# Altium footprint library FPC connectors.PcbLib: 3 footprints
Each footprint in its own frame and in the unit in brackets; x right, y up, seen from the top. Pads: shape width x height; smd on the part's side, far side on the other; paste and mask are expansions set on the pad; w line width, h text height; cw(c..) or ccw(c..) is an arc to the next point about the centre after c.
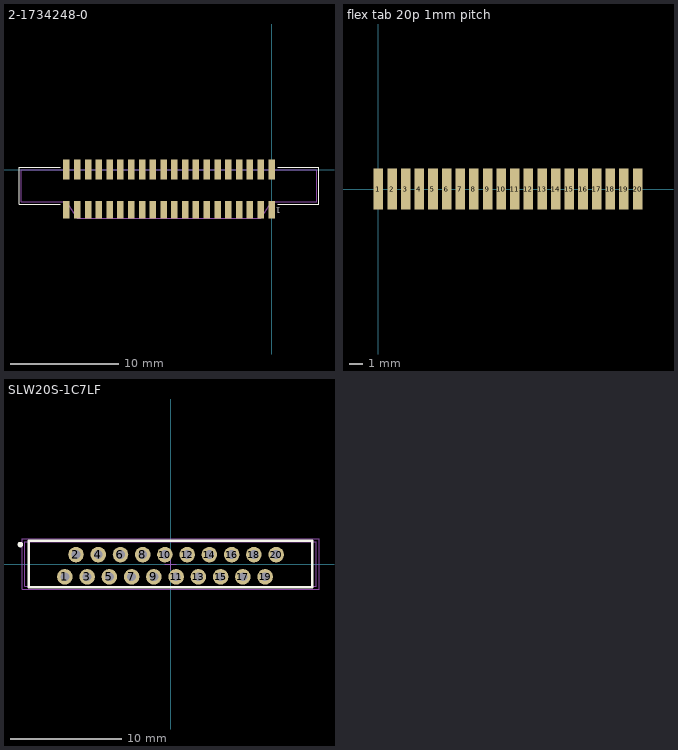
[diagram p0: the footprints below, top view; thin cyan lines are the x and y axes]

## 2-1734248-0 [mm] "TE Connectivity: FPC Connectors, Flex-to-Board, 20 Position, 1mm [.039in] Centerline, Zero Insertion Force (ZIF), Vertical, Surface Mount"
pads (40):
  rect 0.6x1.65 smd: 1(0,-3.725) 2(-1,-3.725) 3(-2,-3.725) 4(-3,-3.725) 5(-4,-3.725) 6(-5,-3.725) 7(-6,-3.725) 8(-7,-3.725) 9(-8,-3.725) 10(-9,-3.725) 11(-10,-3.725) 12(-11,-3.725) 13(-12,-3.725) 14(-13,-3.725) 15(-14,-3.725) 16(-15,-3.725) 17(-16,-3.725) 18(-17,-3.725) 19(-18,-3.725) 20(-19,-3.725)
  rect 0.6x1.85 smd: 1(0,0.025) 2(-1,0.025) 3(-2,0.025) 4(-3,0.025) 5(-4,0.025) 6(-5,0.025) 7(-6,0.025) 8(-7,0.025) 9(-8,0.025) 10(-9,0.025) 11(-10,0.025) 12(-11,0.025) 13(-12,0.025) 14(-13,0.025) 15(-14,0.025) 16(-15,0.025) 17(-16,0.025) 18(-17,0.025) 19(-18,0.025) 20(-19,0.025)
Top Overlay:
  lines w0.1: -19.6,-3.2 -23.4,-3.2 -23.4,0.2 -19.6,0.2 ; 0.6,-3.2 4.4,-3.2 4.4,0.2 0.6,0.2
  text "1" at 0.85,-3.55 h0.5
Mechanical 1:
  lines w0.1: -23.2,-3 -19,-3 -18,-4.5 -1,-4.5 0,-3 4.2,-3 4.2,0 -23.2,0 -23.2,-3

## flex tab 20p 1mm pitch [mm] "quick and dirty flex-pcb connector tab.  not vetted or tested in any meaningful way."
pads (20):
  rect 0.7x3 smd mask+0: 1(0,0) 2(1,0) 3(2,0) 4(3,0) 5(4,0) 6(5,0) 7(6,0) 8(7,0) 9(8,0) 10(9,0) 11(10,0) 12(11,0) 13(12,0) 14(13,0) 15(14,0) 16(15,0) 17(16,0) 18(17,0) 19(18,0) 20(19,0)
Top Solder:
  rectangle: -1,-1.65 20,1.65

## SLW20S-1C7LF [mm] "CONN FFC FPC VERT 20POS 1MM PCB"
pads (20):
  round 1.4 hole 0.8: 1(-9.5,-1.15) 2(-8.5,0.85) 3(-7.5,-1.15) 4(-6.5,0.85) 5(-5.5,-1.15) 6(-4.5,0.85) 7(-3.5,-1.15) 8(-2.5,0.85) 9(-1.5,-1.15) 10(-0.5,0.85) 11(0.5,-1.15) 12(1.5,0.85) 13(2.5,-1.15) 14(3.5,0.85) 15(4.5,-1.15) 16(5.5,0.85) 17(6.5,-1.15) 18(7.5,0.85) 19(8.5,-1.15) 20(9.5,0.85)
Top Overlay:
  circle w0.25: c-13.5,1.75 r0.125
  lines w0.2: -12.75,-2.1 -12.75,2.1 12.75,2.1 12.75,-2.1 -12.75,-2.1
Top Assembly:
  lines w0.1: -13.1,-2 13.1,-2 13.1,2 -13.1,2 -13.1,-2
  text ".Designator" at -7.747,-1.27 h1.27
Top Courtyard:
  lines w0.05: -13.35,-2.25 13.35,-2.25 13.35,2.25 -13.35,2.25 -13.35,-2.25
  lines w0.1: -0.5,0 0.5,0 ; 0,-0.5 0,0.5
3D body "sslw20s-1c7_lf.stp": height 5, standoff -3.5, extent -13.1,-2 13.1,2